# Altium schematic symbol library 计算机原理实验4.SchLib: 3 symbols
Pins are listed as number, name and electrical type; pins without a type are passive.

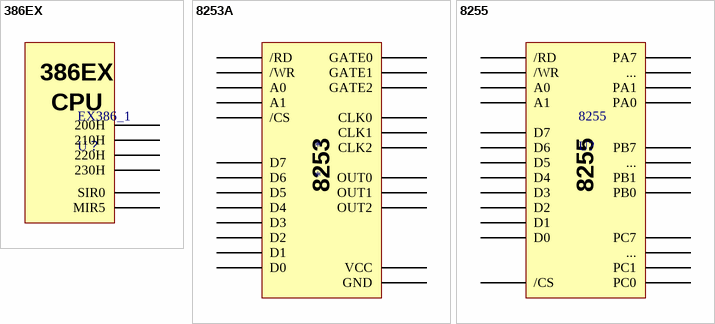
[diagram p0: symbols 386EX to 8255]

## 386EX
designator EX386_1, comment U？
pins: GND 200H, GND MIR5, GND 210H, GND 220H, GND 230H, GND SIR0
text: CPU

## 8253A
designator *
pins: GND /RD, GND /WR, GND A0, GND A1, GND D7, GND D6, GND D5, GND D4, GND D3, GND D2, GND D1, GND D0, GND OUT0, GND GATE0, GND CLK0, GND /CS, GND VCC, GND, GND GATE1, GND GATE2, GND CLK1, GND CLK2, GND OUT1, GND OUT2
text: 8253

## 8255
designator 8255, comment U?
pins: GND /RD, GND /WR, GND A0, GND A1, GND D7, GND D6, GND D5, GND D4, GND D3, GND D2, GND D1, GND D0, GND PB1, GND PC7, GND ..., GND PA7, GND ..., GND PA1, GND PB7, GND ..., GND /CS, GND PC1, GND PC0, GND PB0, GND PA0